# Altium footprint library TE 6339168-01-B.PCBLIB: 1 footprints
Each footprint in its own frame and in the unit in brackets; x right, y up, seen from the top. Pads: shape width x height; smd on the part's side, far side on the other; paste and mask are expansions set on the pad; w line width, h text height; cw(c..) or ccw(c..) is an arc to the next point about the centre after c.
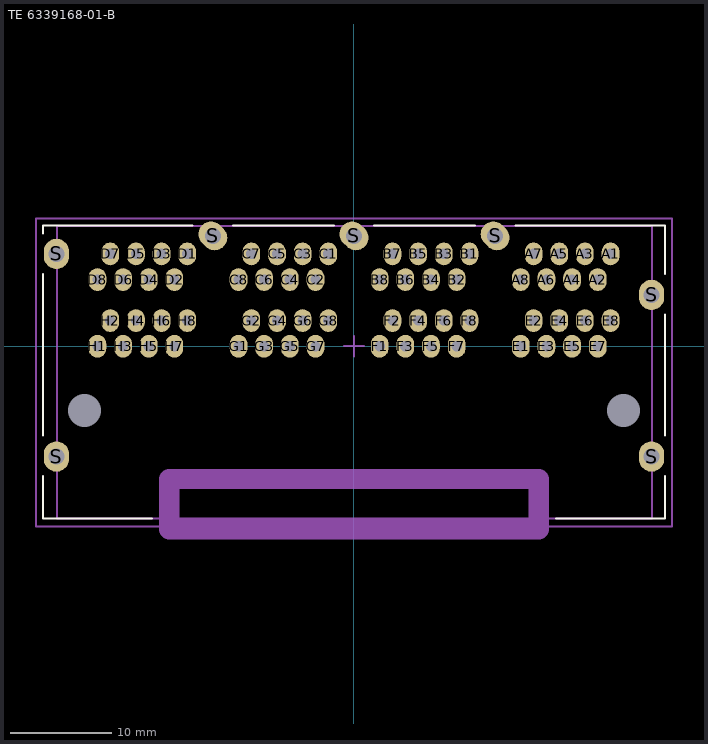
[diagram p0: the footprint, top view; thin cyan lines are the x and y axes]

## TE 6339168-01-B [mm]
height 26.16
pads (73):
  oval 1.75x2.25 hole 1.02: A1(25.4,9.14) A2(24.13,6.6) A3(22.86,9.14) A4(21.59,6.6) A5(20.32,9.14) A6(19.05,6.6) A7(17.78,9.14) A8(16.51,6.6) B1(11.43,9.14) B2(10.16,6.6) B3(8.89,9.14) B4(7.62,6.6) B5(6.35,9.14) B6(5.08,6.6) B7(3.81,9.14) B8(2.54,6.6) C1(-2.54,9.14) C2(-3.81,6.6) C3(-5.08,9.14) C4(-6.35,6.6) C5(-7.62,9.14) C6(-8.89,6.6) C7(-10.16,9.14) C8(-11.43,6.6) D1(-16.51,9.14) D2(-17.78,6.6) D3(-19.05,9.14) D4(-20.32,6.6) D5(-21.59,9.14) D6(-22.86,6.6) D7(-24.13,9.14) D8(-25.4,6.6) E1(16.51,0) E2(17.78,2.54) E3(19.05,0) E4(20.32,2.54) E5(21.59,0) E6(22.86,2.54) E7(24.13,0) E8(25.4,2.54) F1(2.54,0) F2(3.81,2.54) F3(5.08,0) F4(6.35,2.54) F5(7.62,0) F6(8.89,2.54) F7(10.16,0) F8(11.43,2.54) G1(-11.43,0) G2(-10.16,2.54) G3(-8.89,0) G4(-7.62,2.54) G5(-6.35,0) G6(-5.08,2.54) G7(-3.81,0) G8(-2.54,2.54) H1(-25.4,0) H2(-24.13,2.54) H3(-22.86,0) H4(-21.59,2.54) H5(-20.32,0) H6(-19.05,2.54) H7(-17.78,0) H8(-16.51,2.54)
  round 0 hole 3.25 unplated: M(-26.67,-6.35) M(26.67,-6.35)
  oval 2.5x3 hole 1.57: S(-29.46,-10.92) S(-29.46,9.14) S(29.46,-10.92) S(29.46,5.08)
  oval 2.5x3 hole 1.57 rot 45: S(-13.97,10.92) S(0,10.92) S(13.97,10.92)
Top Overlay:
  lines w0.2: -30.8,-12.85 -30.8,-17.05 -20,-17.05 ; -30.8,-8.85 -30.8,7.15 ; -30.8,11.15 -30.8,11.95 -16,11.95 ; -12,11.95 -2,11.95 ; 2,11.95 12,11.95 ; 16,11.95 30.8,11.95 30.8,7.15 ; 20,-17.05 30.8,-17.05 30.8,-12.85 ; 30.8,-8.85 30.8,3.15
Mechanical 1:
  lines w0.2: -29.4,-17.075 -29.4,11.915 29.5,11.915 29.5,-17.075 -29.4,-17.075
Mechanical 15:
  lines w0.2: -1,0 1,0 ; 0,-1 0,1 ; -31.5,-17.85 -31.5,12.65 31.5,12.65 31.5,-17.85 -31.5,-17.85
Milling:
  lines w2: -18.3,-18.15 18.3,-18.15 18.3,-13.15 0,-13.15 -18.3,-13.15 -18.3,-18.15
3D body "TE 6339168-01.STEP": height 26.67, standoff -4.06, extent -30.835,-17.075 30.835,11.915